# Altium schematic symbol library USD CARD.SchLib: 2 symbols
Pins are listed as number, name and electrical type; pins without a type are passive.

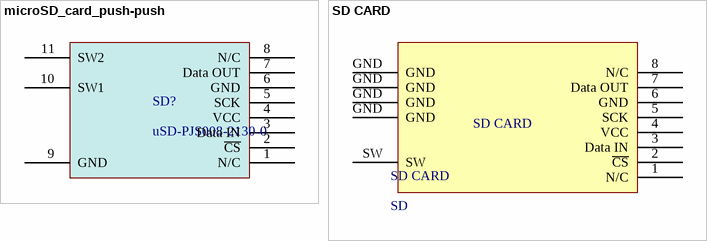
[diagram p0: symbols microSD_card_push-push to SD CARD]

## microSD_card_push-push
designator SD?, comment uSD-PJS008-2130-0
RockOn 2016 SD card midification (part number PJS008-2130-0) -Jesse Austin
footprint microSD_push-push
pins: 1 N/C, 2 ~{CS}, 3 Data IN, 4 VCC, 5 SCK, 6 GND, 7 Data OUT, 8 N/C, 9 GND, 10 SW1, 11 SW2

## SD CARD
designator SD CARD, comment SD
footprint SD Socket
pins: 1 N/C, 2 ~{CS}, 3 Data IN, 4 VCC, 5 SCK, 6 GND, 7 Data OUT, 8 N/C, GND, GND, GND, GND, SW